# EAGLE library part TLV320AIC3106 (library codec)
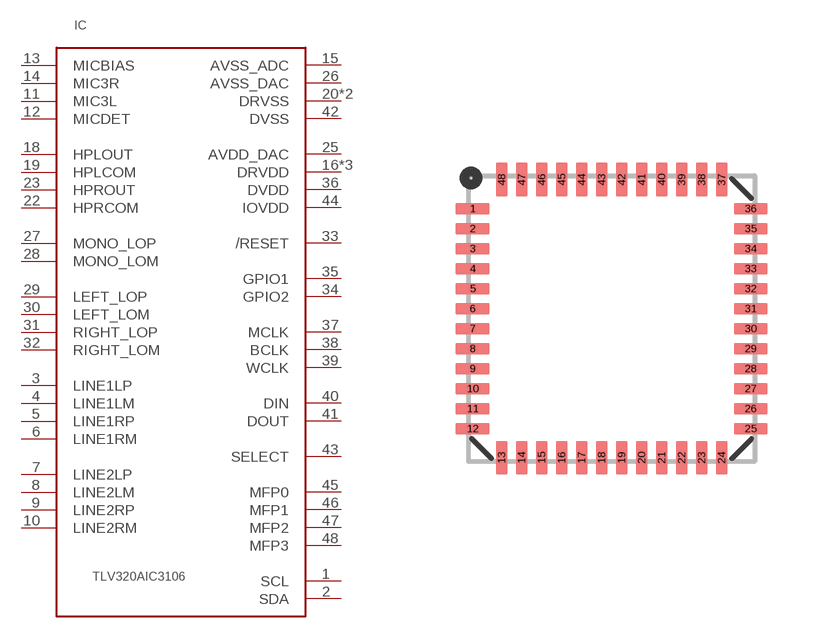
[diagram p0: symbol with the pads of QFN48; footprint QFN48]

Designator prefix IC

## TLV320AIC3106  [QFN48]
1  SCL
2  SDA
3  LINE1LP
4  LINE1LM
5  LINE1RP
6  LINE1RM
7  LINE2LP
8  LINE2LM
9  LINE2RP
10  LINE2RM
11  MIC3L
12  MICDET
13  MICBIAS
14  MIC3R
15  AVSS_ADC
16  DRVDD
17  DRVDD
18  HPLOUT
19  HPLCOM
20  DRVSS
21  DRVSS
22  HPRCOM
23  HPROUT
24  DRVDD
25  AVDD_DAC
26  AVSS_DAC
27  MONO_LOP
28  MONO_LOM
29  LEFT_LOP
30  LEFT_LOM
31  RIGHT_LOP
32  RIGHT_LOM
33  /RESET
34  GPIO2
35  GPIO1
36  DVDD
37  MCLK
38  BCLK
39  WCLK
40  DIN
41  DOUT
42  DVSS
43  SELECT
44  IOVDD
45  MFP0
46  MFP1
47  MFP2
48  MFP3

## Footprint QFN48 (pad centres in mm)
smd 0.85 x 0.28: 1 -3.475,2.75; 2 -3.475,2.25; 3 -3.475,1.75; 4 -3.475,1.25; 5 -3.475,0.75; 6 -3.475,0.25; 7 -3.475,-0.25; 8 -3.475,-0.75; 9 -3.475,-1.25; 10 -3.475,-1.75; 11 -3.475,-2.25; 12 -3.475,-2.75; 25 3.475,-2.75; 26 3.475,-2.25; 27 3.475,-1.75; 28 3.475,-1.25; 29 3.475,-0.75; 30 3.475,-0.25; 31 3.475,0.25; 32 3.475,0.75; 33 3.475,1.25; 34 3.475,1.75; 35 3.475,2.25; 36 3.475,2.75
smd 0.28 x 0.85: 13 -2.75,-3.475; 14 -2.25,-3.475; 15 -1.75,-3.475; 16 -1.25,-3.475; 17 -0.75,-3.475; 18 -0.25,-3.475; 19 0.25,-3.475; 20 0.75,-3.475; 21 1.25,-3.475; 22 1.75,-3.475; 23 2.25,-3.475; 24 2.75,-3.475; 37 2.75,3.475; 38 2.25,3.475; 39 1.75,3.475; 40 1.25,3.475; 41 0.75,3.475; 42 0.25,3.475; 43 -0.25,3.475; 44 -0.75,3.475; 45 -1.25,3.475; 46 -1.75,3.475; 47 -2.25,3.475; 48 -2.75,3.475